# Altium schematic symbol library ABRACON VCTCXO ASVTX-11.SchLib: 1 symbol
Pins are listed as number, name and electrical type; pins without a type are passive.

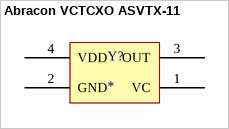
[diagram p0: symbol Abracon VCTCXO ASVTX-11]

## Abracon VCTCXO ASVTX-11
designator Y?
SMD CMOS Crystal Oscillator
pins: 1 VC, 2 GND, 3 OUT, 4 VDD